# EAGLE library part QUADUART (library CalPolyUCV)
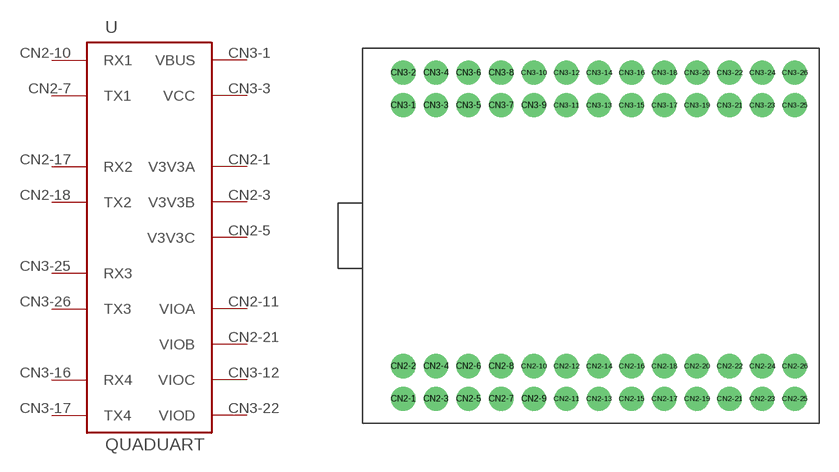
[diagram p4: symbol with the pads of QUADUART; footprint QUADUART]

Designator prefix -

## QUADUART  [QUADUART]
CN2-1  V3V3A
CN2-3  V3V3B
CN2-5  V3V3C
CN2-7  TX1
CN2-10  RX1
CN2-11  VIOA
CN2-17  RX2
CN2-18  TX2
CN2-21  VIOB
CN3-1  VBUS
CN3-3  VCC
CN3-12  VIOC
CN3-16  RX4
CN3-17  TX4
CN3-22  VIOD
CN3-25  RX3
CN3-26  TX3

## Footprint QUADUART (pad centres in mm)
drill 1.016 pad 1.88 round: CN2-1 -15.24,-12.7; CN2-2 -15.24,-10.16; CN2-3 -12.7,-12.7; CN2-4 -12.7,-10.16; CN2-5 -10.16,-12.7; CN2-6 -10.16,-10.16; CN2-7 -7.62,-12.7; CN2-8 -7.62,-10.16; CN2-9 -5.08,-12.7; CN2-10 -5.08,-10.16; CN2-11 -2.54,-12.7; CN2-12 -2.54,-10.16; CN2-13 0,-12.7; CN2-14 0,-10.16; CN2-15 2.54,-12.7; CN2-16 2.54,-10.16; CN2-17 5.08,-12.7; CN2-18 5.08,-10.16; CN2-19 7.62,-12.7; CN2-20 7.62,-10.16; CN2-21 10.16,-12.7; CN2-22 10.16,-10.16; CN2-23 12.7,-12.7; CN2-24 12.7,-10.16; CN2-25 15.24,-12.7; CN2-26 15.24,-10.16; CN3-1 -15.24,10.16; CN3-2 -15.24,12.7; CN3-3 -12.7,10.16; CN3-4 -12.7,12.7; CN3-5 -10.16,10.16; CN3-6 -10.16,12.7; CN3-7 -7.62,10.16; CN3-8 -7.62,12.7; CN3-9 -5.08,10.16; CN3-10 -5.08,12.7; CN3-11 -2.54,10.16; CN3-12 -2.54,12.7; CN3-13 0,10.16; CN3-14 0,12.7; CN3-15 2.54,10.16; CN3-16 2.54,12.7; CN3-17 5.08,10.16; CN3-18 5.08,12.7; CN3-19 7.62,10.16; CN3-20 7.62,12.7; CN3-21 10.16,10.16; CN3-22 10.16,12.7; CN3-23 12.7,10.16; CN3-24 12.7,12.7; CN3-25 15.24,10.16; CN3-26 15.24,12.7